# Altium footprint library allegro.PCBLIB: 16 footprints
Each footprint in its own frame and in the unit in brackets; x right, y up, seen from the top. Pads: shape width x height; smd on the part's side, far side on the other; paste and mask are expansions set on the pad; w line width, h text height; cw(c..) or ccw(c..) is an arc to the next point about the centre after c.
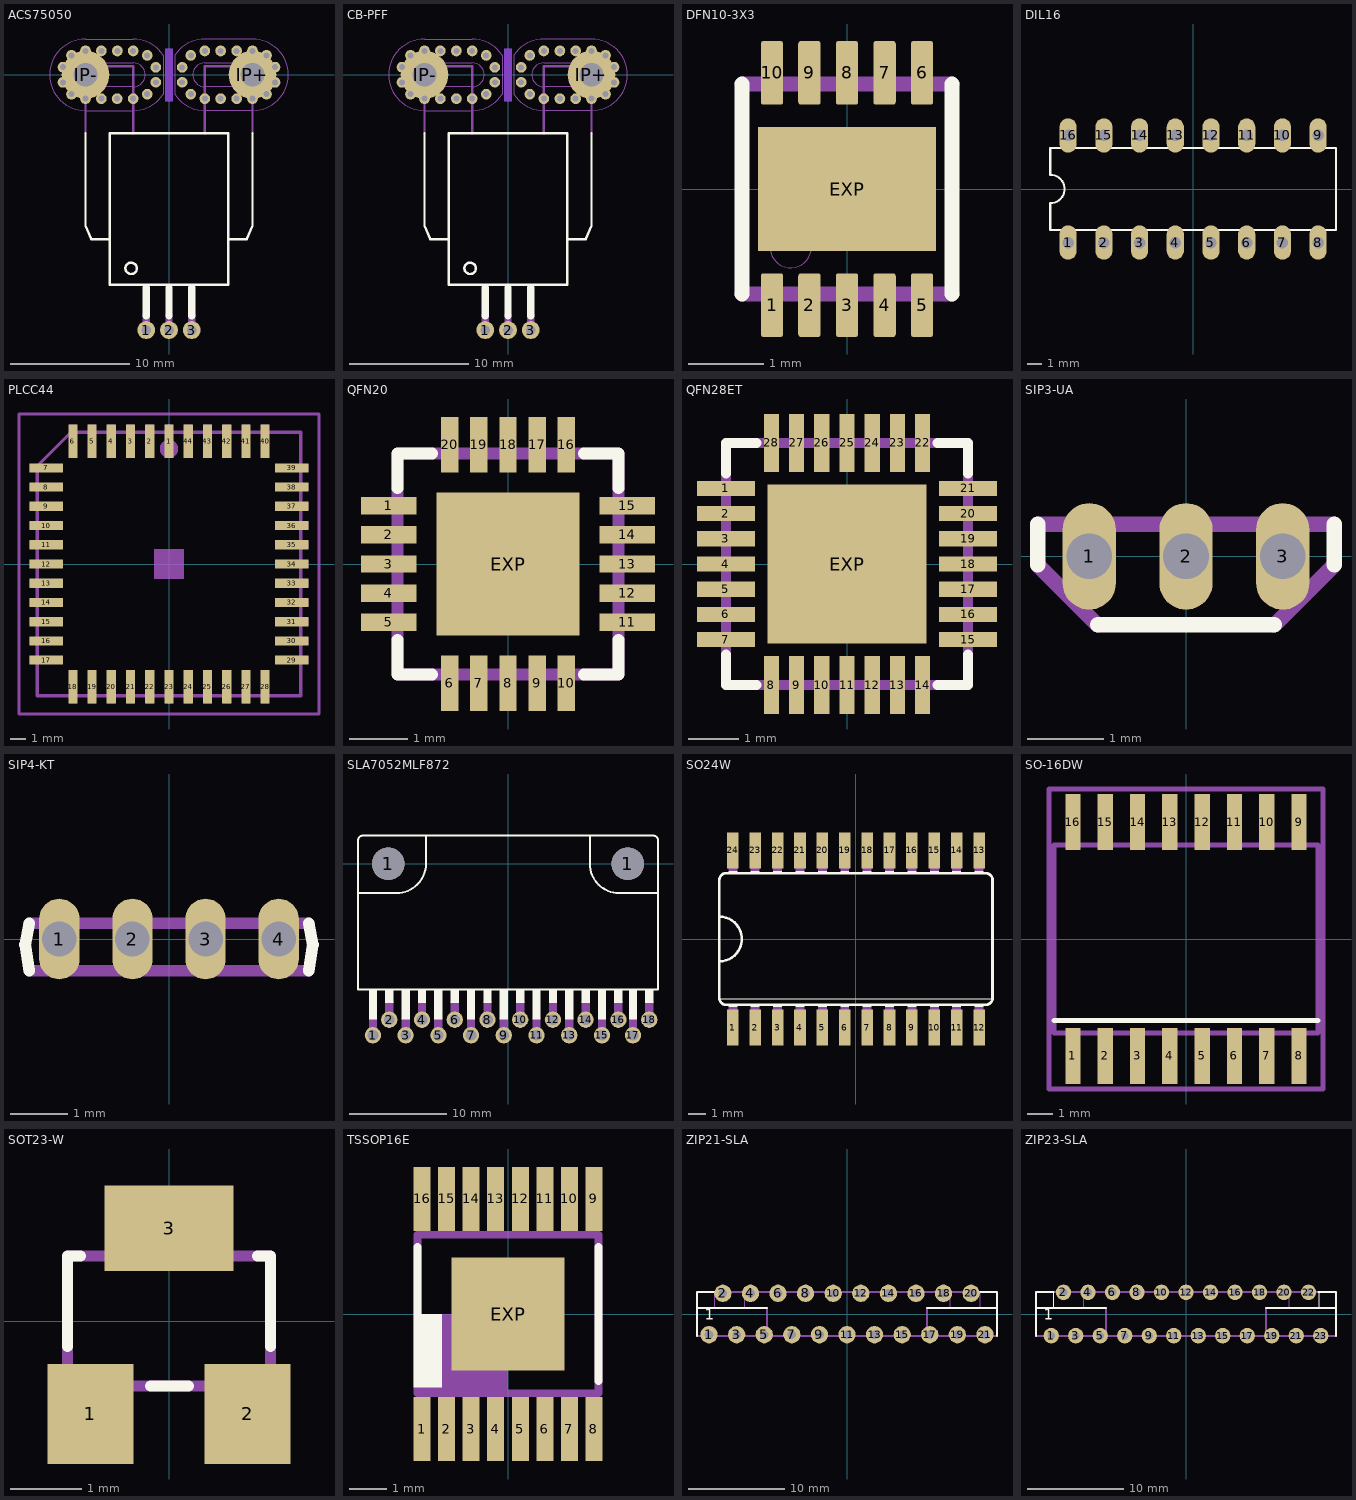
[diagram p0: the footprints below, top view; thin cyan lines are the x and y axes]

## ACS75050 [mm]
pads (37):
  round 1.5 hole 0.8: 1(-1.91,-21.4) 2(0,-21.4) 3(1.91,-21.4)
  round 4 hole 2: IP+(7,0) IP-(-7,0)
  round 0.9 hole 0.5: IP+@2(8.89,-0.635) IP+@3(8.89,0.635) IP+@4(8.175,1.625) IP+@5(7,2) IP+@6(5.675,2) IP+@7(4.325,2) IP+@8(3,2) IP+@9(1.825,1.625) IP+@10(1.1,0.625) IP+@11(1.1,-0.625) IP+@12(1.825,-1.625) IP+@13(3,-2) IP+@14(4.325,-2) IP+@15(5.675,-2) IP+@16(7,-2) IP+@17(8.175,-1.625) IP-@2(-8.89,-0.635) IP-@3(-8.89,0.635) IP-@4(-8.175,1.625) IP-@5(-7,2) IP-@6(-5.675,2) IP-@7(-4.325,2) IP-@8(-3,2) IP-@9(-1.825,1.625) IP-@10(-1.1,0.625) IP-@11(-1.1,-0.625) IP-@12(-1.825,-1.625) IP-@13(-3,-2) IP-@14(-4.35,-2) IP-@15(-5.675,-2) IP-@16(-7,-2) IP-@17(-8.175,-1.625)
Top Layer:
  region: 0,0 0.254,0 0.254,0.254 0,0.254
  region: 0,0 0.254,0 0.254,0.254 0,0.254
Top Layer keep-out:
  rectangle: -0.318,-2.222 0.318,2.222
Bottom Layer:
  region: 0,0 0.254,0 0.254,0.254 0,0.254
  region: 0,0 0.254,0 0.254,0.254 0,0.254
Bottom Layer keep-out:
  rectangle: -0.318,-2.222 0.318,2.222
Top Overlay:
  circle w0.203: c-3.175,-16.225 r0.478
  lines w0.203: -7,-4.9 -7,-12.65 -6.525,-13.775 -5.025,-13.775 ; 5,-13.775 6.525,-13.775 7,-12.65 7,-4.9 ; -4.95,-17.6 -4.95,-4.9 4.95,-4.9 4.95,-17.6 -4.95,-17.6
  lines w0.6: -1.91,-20.2 -1.91,-17.825 ; 0,-20.2 0,-17.825 ; 1.91,-20.2 1.91,-17.825
Mechanical 11:
  lines w0: -7,-1 -3,-1 ccw(c-3,0) -3,1 -7,1 ccw(c-7,0) -7,-1 ; 3,-1 7,-1 ccw(c7,0) 7,1 3,1 ccw(c3,0) 3,-1
Mechanical 14:
  circle w0.001: c1.824,-1.618 r0.25
  circle w0.001: c1.098,-0.618 r0.25
  circle w0.001: c1.098,0.618 r0.25
  circle w0.001: c1.824,1.618 r0.25
  circle w0.001: c3,2 r0.25
  circle w0.001: c3,-2 r0.25
  circle w0.001: c4.333,-2 r0.25
  circle w0.001: c5.666,-2 r0.25
  circle w0.001: c8.176,1.618 r0.25
  circle w0.001: c8.902,0.618 r0.25
  circle w0.001: c8.902,-0.618 r0.25
  circle w0.001: c8.175,-1.618 r0.25
  circle w0.001: c7,-2 r0.25
  circle w0.001: c7,2 r0.25
  circle w0.001: c5.667,2 r0.25
  circle w0.001: c4.333,2 r0.25
  circle w0.001: c-8.176,-1.618 r0.25
  circle w0.001: c-8.902,-0.618 r0.25
  circle w0.001: c-8.902,0.618 r0.25
  circle w0.001: c-8.175,1.618 r0.25
  circle w0.001: c-7,2 r0.25
  circle w0.001: c-7,-2 r0.25
  circle w0.001: c-5.667,-2 r0.25
  circle w0.001: c-4.333,-2 r0.25
  circle w0.001: c-1.824,1.618 r0.25
  circle w0.001: c-1.098,0.618 r0.25
  circle w0.001: c-1.098,-0.618 r0.25
  circle w0.001: c-1.824,-1.618 r0.25
  circle w0.001: c-3,-2 r0.25
  circle w0.001: c-3,2 r0.25
  circle w0.001: c-4.333,2 r0.25
  circle w0.001: c-5.666,2 r0.25
  lines w0.001: -7,-3 cw(c-7,0) -7,3 -3,3 cw(c-3,0.01) -0.5,1.65 -0.5,-1.65 cw(c-3,-0.01) -3,-3 -7,-3 ; 0.5,-1.65 ccw(c3,-0.01) 3,-3 7,-3 ccw(c7,0) 7,3 3,3 ccw(c3,0.01) 0.5,1.65 0.5,-1.65
Mechanical 16:
  lines w0.203: -7,-4.9 -7,0.7 -3,0.7 -3,-4.9 ; 3,-4.9 3,0.7 7,0.7 7,-4.9
  lines w0.6: -1.91,-21.4 -1.91,-20.2 ; 0,-21.4 0,-20.2 ; 1.91,-21.4 1.91,-20.2
Via Holes:
  rectangle: -0.318,-2.222 0.318,2.222

## CB-PFF [mm]
pads (37):
  round 1.5 hole 0.8: 1(-1.91,-21.4) 2(0,-21.4) 3(1.91,-21.4)
  round 4 hole 2: IP+(7,0) IP-(-7,0)
  round 0.9 hole 0.5: IP+@2(8.89,0.635) IP+@3(8.89,-0.635) IP+@4(8.175,-1.625) IP+@5(7,-2) IP+@6(5.675,-2) IP+@7(4.35,-2) IP+@8(3,-2) IP+@9(1.825,-1.625) IP+@10(1.1,-0.625) IP+@11(1.1,0.625) IP+@12(1.825,1.625) IP+@13(3,2) IP+@14(4.35,2) IP+@15(5.675,2) IP+@16(7,2) IP+@17(8.175,1.625) IP-@2(-8.89,0.635) IP-@3(-8.89,-0.635) IP-@4(-8.175,-1.625) IP-@5(-7,-2) IP-@6(-5.675,-2) IP-@7(-4.325,-2) IP-@8(-3,-2) IP-@9(-1.825,-1.625) IP-@10(-1.1,-0.625) IP-@11(-1.1,0.625) IP-@12(-1.825,1.625) IP-@13(-3,2) IP-@14(-4.325,2) IP-@15(-5.675,2) IP-@16(-7,2) IP-@17(-8.175,1.625)
Top Layer:
  region: 0,0 0.254,0 0.254,0.254 0,0.254
  region: 0,0 0.254,0 0.254,0.254 0,0.254
Top Layer keep-out:
  rectangle: -0.318,-2.222 0.318,2.222
Bottom Layer:
  region: 0,0 0.254,0 0.254,0.254 0,0.254
  region: 0,0 0.254,0 0.254,0.254 0,0.254
Bottom Layer keep-out:
  rectangle: -0.318,-2.222 0.318,2.222
Top Overlay:
  circle w0.203: c-3.175,-16.225 r0.478
  lines w0.203: -7,-4.9 -7,-12.65 -6.525,-13.775 -5.025,-13.775 ; 5,-13.775 6.525,-13.775 7,-12.65 7,-4.9 ; -4.95,-17.6 -4.95,-4.9 4.95,-4.9 4.95,-17.6 -4.95,-17.6
  lines w0.6: -1.91,-20.2 -1.91,-17.825 ; 0,-20.2 0,-17.825 ; 1.91,-20.2 1.91,-17.825
Mechanical 11:
  lines w0: -7,-1 -3,-1 ccw(c-3,0) -3,1 -7,1 ccw(c-7,0) -7,-1 ; 3,-1 7,-1 ccw(c7,0) 7,1 3,1 ccw(c3,0) 3,-1
Mechanical 14:
  circle w0.001: c-1.824,1.618 r0.25
  circle w0.001: c-1.098,0.618 r0.25
  circle w0.001: c-1.098,-0.618 r0.25
  circle w0.001: c-1.824,-1.618 r0.25
  circle w0.001: c-3,-2 r0.25
  circle w0.001: c-3,2 r0.25
  circle w0.001: c-4.333,2 r0.25
  circle w0.001: c-5.666,2 r0.25
  circle w0.001: c-8.176,-1.618 r0.25
  circle w0.001: c-8.902,-0.618 r0.25
  circle w0.001: c-8.902,0.618 r0.25
  circle w0.001: c-8.175,1.618 r0.25
  circle w0.001: c-7,2 r0.25
  circle w0.001: c-7,-2 r0.25
  circle w0.001: c-5.667,-2 r0.25
  circle w0.001: c-4.333,-2 r0.25
  circle w0.001: c8.176,1.618 r0.25
  circle w0.001: c8.902,0.618 r0.25
  circle w0.001: c8.902,-0.618 r0.25
  circle w0.001: c8.175,-1.618 r0.25
  circle w0.001: c7,-2 r0.25
  circle w0.001: c7,2 r0.25
  circle w0.001: c5.667,2 r0.25
  circle w0.001: c4.333,2 r0.25
  circle w0.001: c1.824,-1.618 r0.25
  circle w0.001: c1.098,-0.618 r0.25
  circle w0.001: c1.098,0.618 r0.25
  circle w0.001: c1.824,1.618 r0.25
  circle w0.001: c3,2 r0.25
  circle w0.001: c3,-2 r0.25
  circle w0.001: c4.333,-2 r0.25
  circle w0.001: c5.666,-2 r0.25
  lines w0.001: -7,-3 cw(c-7,0) -7,3 -3,3 cw(c-3,0.01) -0.5,1.65 -0.5,-1.65 cw(c-3,-0.01) -3,-3 -7,-3 ; 0.5,-1.65 ccw(c3,-0.01) 3,-3 7,-3 ccw(c7,0) 7,3 3,3 ccw(c3,0.01) 0.5,1.65 0.5,-1.65
Mechanical 16:
  lines w0.203: -7,-4.9 -7,0.7 -3,0.7 -3,-4.9 ; 3,-4.9 3,0.7 7,0.7 7,-4.9
  lines w0.6: -1.91,-21.4 -1.91,-20.2 ; 0,-21.4 0,-20.2 ; 1.91,-21.4 1.91,-20.2
Via Holes:
  rectangle: -0.318,-2.222 0.318,2.222

## DFN10-3X3 [mm]
pads (11):
  rrect25% 0.3x0.85 smd: 1(-1,-1.55) 2(-0.5,-1.55) 3(0,-1.55) 4(0.5,-1.55) 5(1,-1.55) 6(1,1.55) 7(0.5,1.55) 8(0,1.55) 9(-0.5,1.55) 10(-1,1.55)
  rect 2.38x1.65 smd: EXP(0,0)
Top Overlay:
  lines w0.203: -1.4,-1.4 -1.4,1.4 ; 1.4,-1.4 1.4,1.4
Top Solder:
  rectangle: -1.175,-2 -0.825,-1.1
  rectangle: -0.675,-2 -0.325,-1.1
  rectangle: -0.175,-2 0.175,-1.1
  rectangle: 0.325,-2 0.675,-1.1
  rectangle: 0.825,-2 1.175,-1.1
  region: 1.175,2 0.825,2 0.825,1.1 1.175,1.1
  region: 0.675,2 0.325,2 0.325,1.1 0.675,1.1
  region: 0.175,2 -0.175,2 -0.175,1.1 0.175,1.1
  region: -0.325,2 -0.675,2 -0.675,1.1 -0.325,1.1
  region: -0.825,2 -1.175,2 -1.175,1.1 -0.825,1.1
  rectangle: -1.25,-0.9 1.25,0.9
Mechanical 16:
  circle w0: c-0.75,-0.775 r0.275
  lines w0.203: -1.4,-1.4 1.4,-1.4 ; -1.4,1.4 1.4,1.4

## DIL16 [mil]
pads (16):
  oval 48x96 hole 32: 1(-350,-150) 2(-250,-150) 3(-150,-150) 4(-50,-150) 5(50,-150) 6(150,-150) 7(250,-150) 8(350,-150) 9(350,150) 10(250,150) 11(150,150) 12(50,150) 13(-50,150) 14(-150,150) 15(-250,150) 16(-350,150)
Top Overlay:
  lines w6: -400,-115 400,-115 400,115 -400,115 -400,40 cw(c-400,0) -400,-40 -400,-115

## PLCC44 [mm]
pads (44):
  rect 0.6x2.2 smd: 1(0,8.1) 2(-1.27,8.1) 3(-2.54,8.1) 4(-3.81,8.1) 5(-5.08,8.1) 6(-6.35,8.1) 18(-6.35,-8.1) 19(-5.08,-8.1) 20(-3.81,-8.1) 21(-2.54,-8.1) 22(-1.27,-8.1) 23(0,-8.1) 24(1.27,-8.1) 25(2.54,-8.1) 26(3.81,-8.1) 27(5.08,-8.1) 28(6.35,-8.1) 40(6.35,8.1) 41(5.08,8.1) 42(3.81,8.1) 43(2.54,8.1) 44(1.27,8.1)
  rect 2.2x0.6 smd: 7(-8.1,6.35) 8(-8.1,5.08) 9(-8.1,3.81) 10(-8.1,2.54) 11(-8.1,1.27) 12(-8.1,0) 13(-8.1,-1.27) 14(-8.1,-2.54) 15(-8.1,-3.81) 16(-8.1,-5.08) 17(-8.1,-6.35) 29(8.1,-6.35) 30(8.1,-5.08) 31(8.1,-3.81) 32(8.1,-2.54) 33(8.1,-1.27) 34(8.1,0) 35(8.1,1.27) 36(8.1,2.54) 37(8.1,3.81) 38(8.1,5.08) 39(8.1,6.35)
Mechanical 6:
  rectangle: -1,-1 1,1
Mechanical 16:
  circle w0.61: c0,7.6 r0.3
  rectangle: -0.26,8.75 0.26,9.2
  rectangle: -1.53,8.75 -1.01,9.2
  rectangle: -2.8,8.75 -2.28,9.2
  rectangle: -4.07,8.75 -3.55,9.2
  rectangle: -5.34,8.75 -4.82,9.2
  rectangle: -6.61,8.75 -6.09,9.2
  rectangle: -9.2,6.09 -8.75,6.61
  rectangle: -9.2,4.82 -8.75,5.34
  rectangle: -9.2,3.55 -8.75,4.07
  rectangle: -9.2,2.28 -8.75,2.8
  rectangle: -9.2,1.01 -8.75,1.53
  rectangle: -9.2,-0.26 -8.75,0.26
  rectangle: -9.2,-1.53 -8.75,-1.01
  rectangle: -9.2,-2.8 -8.75,-2.28
  rectangle: -9.2,-4.07 -8.75,-3.55
  rectangle: -9.2,-5.34 -8.75,-4.82
  rectangle: -9.2,-6.61 -8.75,-6.09
  rectangle: -6.61,-9.2 -6.09,-8.75
  rectangle: -5.34,-9.2 -4.82,-8.75
  rectangle: -4.07,-9.2 -3.55,-8.75
  rectangle: -2.8,-9.2 -2.28,-8.75
  rectangle: -1.53,-9.2 -1.01,-8.75
  rectangle: -0.26,-9.2 0.26,-8.75
  rectangle: 1.01,-9.2 1.53,-8.75
  rectangle: 2.28,-9.2 2.8,-8.75
  rectangle: 3.55,-9.2 4.07,-8.75
  rectangle: 4.82,-9.2 5.34,-8.75
  rectangle: 6.09,-9.2 6.61,-8.75
  rectangle: 8.75,-6.61 9.2,-6.09
  rectangle: 8.75,-5.34 9.2,-4.82
  rectangle: 8.75,-4.07 9.2,-3.55
  rectangle: 8.75,-2.8 9.2,-2.28
  rectangle: 8.75,-1.53 9.2,-1.01
  rectangle: 8.75,-0.26 9.2,0.26
  rectangle: 8.75,1.01 9.2,1.53
  rectangle: 8.75,2.28 9.2,2.8
  rectangle: 8.75,3.55 9.2,4.07
  rectangle: 8.75,4.82 9.2,5.34
  rectangle: 8.75,6.09 9.2,6.61
  rectangle: 6.09,8.75 6.61,9.2
  rectangle: 4.82,8.75 5.34,9.2
  rectangle: 3.55,8.75 4.07,9.2
  rectangle: 2.28,8.75 2.8,9.2
  rectangle: 1.01,8.75 1.53,9.2
  lines w0.203: -8.7,-8.7 -8.7,6.465 -6.465,8.7 8.7,8.7 8.7,-8.7 -8.7,-8.7
  text "IPC PLCC-44 Suare" at -5.96,4.27 h0.94
Mechanical 27:
  lines w0.2: -9.903,-9.903 9.903,-9.903 9.903,9.903 -9.903,9.903 -9.903,-9.903

## QFN20 [mm]
pads (21):
  rect 0.95x0.3 smd: 1(-2.05,1) 2(-2.05,0.5) 3(-2.05,0) 4(-2.05,-0.5) 5(-2.05,-1) 11(2.05,-1) 12(2.05,-0.5) 13(2.05,0) 14(2.05,0.5) 15(2.05,1)
  rect 0.3x0.95 smd: 6(-1,-2.05) 7(-0.5,-2.05) 8(0,-2.05) 9(0.5,-2.05) 10(1,-2.05) 16(1,2.05) 17(0.5,2.05) 18(0,2.05) 19(-0.5,2.05) 20(-1,2.05)
  rect 2.45x2.45 smd: EXP(0,0)
Top Overlay:
  lines w0.203: -1.898,-1.301 -1.898,-1.898 -1.301,-1.898 ; -1.898,1.301 -1.898,1.898 -1.301,1.898 ; 1.301,-1.898 1.898,-1.898 1.898,-1.301 ; 1.301,1.898 1.898,1.898 1.898,1.301
Top Paste:
  rectangle: -2.5,0.875 -1.6,1.125
  rectangle: -2.5,0.375 -1.6,0.625
  rectangle: -2.5,-0.125 -1.6,0.125
  rectangle: -2.5,-0.625 -1.6,-0.375
  rectangle: -2.5,-1.125 -1.6,-0.875
  region: -0.875,-2.5 -0.875,-1.6 -1.125,-1.6 -1.125,-2.5
  region: -0.375,-2.5 -0.375,-1.6 -0.625,-1.6 -0.625,-2.5
  region: 0.125,-2.5 0.125,-1.6 -0.125,-1.6 -0.125,-2.5
  region: 0.625,-2.5 0.625,-1.6 0.375,-1.6 0.375,-2.5
  region: 1.125,-2.5 1.125,-1.6 0.875,-1.6 0.875,-2.5
  region: 2.5,-0.875 1.6,-0.875 1.6,-1.125 2.5,-1.125
  region: 2.5,-0.375 1.6,-0.375 1.6,-0.625 2.5,-0.625
  region: 2.5,0.125 1.6,0.125 1.6,-0.125 2.5,-0.125
  region: 2.5,0.625 1.6,0.625 1.6,0.375 2.5,0.375
  region: 2.5,1.125 1.6,1.125 1.6,0.875 2.5,0.875
  region: 0.875,2.5 0.875,1.6 1.125,1.6 1.125,2.5
  region: 0.375,2.5 0.375,1.6 0.625,1.6 0.625,2.5
  region: -0.125,2.5 -0.125,1.6 0.125,1.6 0.125,2.5
  region: -0.625,2.5 -0.625,1.6 -0.375,1.6 -0.375,2.5
  region: -1.125,2.5 -1.125,1.6 -0.875,1.6 -0.875,2.5
  region: 0,0 0.254,0 0.254,0.254 0,0.254
Top Solder:
  rectangle: -2.575,0.825 -1.525,1.175
  rectangle: -2.575,0.325 -1.525,0.675
  rectangle: -2.575,-0.175 -1.525,0.175
  rectangle: -2.575,-0.675 -1.525,-0.325
  rectangle: -2.575,-1.175 -1.525,-0.825
  region: -0.825,-2.575 -0.825,-1.525 -1.175,-1.525 -1.175,-2.575
  region: -0.325,-2.575 -0.325,-1.525 -0.675,-1.525 -0.675,-2.575
  region: 0.175,-2.575 0.175,-1.525 -0.175,-1.525 -0.175,-2.575
  region: 0.675,-2.575 0.675,-1.525 0.325,-1.525 0.325,-2.575
  region: 1.175,-2.575 1.175,-1.525 0.825,-1.525 0.825,-2.575
  region: 2.575,-0.825 1.525,-0.825 1.525,-1.175 2.575,-1.175
  region: 2.575,-0.325 1.525,-0.325 1.525,-0.675 2.575,-0.675
  region: 2.575,0.175 1.525,0.175 1.525,-0.175 2.575,-0.175
  region: 2.575,0.675 1.525,0.675 1.525,0.325 2.575,0.325
  region: 2.575,1.175 1.525,1.175 1.525,0.825 2.575,0.825
  region: 0.825,2.575 0.825,1.525 1.175,1.525 1.175,2.575
  region: 0.325,2.575 0.325,1.525 0.675,1.525 0.675,2.575
  region: -0.175,2.575 -0.175,1.525 0.175,1.525 0.175,2.575
  region: -0.675,2.575 -0.675,1.525 -0.325,1.525 -0.325,2.575
  region: -1.175,2.575 -1.175,1.525 -0.825,1.525 -0.825,2.575
  region: 0,0 0.254,0 0.254,0.254 0,0.254
Mechanical 16:
  lines w0.203: -1.898,-1.898 1.898,-1.898 1.898,1.898 -1.898,1.898 -1.898,-1.898

## QFN28ET [mm]
pads (29):
  rect 1.15x0.3 smd: 1(-2.4,1.5) 2(-2.4,1) 3(-2.4,0.5) 4(-2.4,0) 5(-2.4,-0.5) 6(-2.4,-1) 7(-2.4,-1.5) 15(2.4,-1.5) 16(2.4,-1) 17(2.4,-0.5) 18(2.4,0) 19(2.4,0.5) 20(2.4,1) 21(2.4,1.5)
  rect 0.3x1.15 smd: 8(-1.5,-2.4) 9(-1,-2.4) 10(-0.5,-2.4) 11(0,-2.4) 12(0.5,-2.4) 13(1,-2.4) 14(1.5,-2.4) 22(1.5,2.4) 23(1,2.4) 24(0.5,2.4) 25(0,2.4) 26(-0.5,2.4) 27(-1,2.4) 28(-1.5,2.4)
  rect 3.15x3.15 smd: EXP(0,0)
Top Overlay:
  lines w0.203: -2.399,-1.802 -2.399,-2.399 -1.802,-2.399 ; -2.399,1.802 -2.399,2.399 -1.802,2.399 ; 1.802,-2.399 2.399,-2.399 2.399,-1.802 ; 1.802,2.399 2.399,2.399 2.399,1.802
Top Paste:
  region: 0,0 0.254,0 0.254,0.254 0,0.254
Top Solder:
  region: 0,0 0.254,0 0.254,0.254 0,0.254
Mechanical 16:
  lines w0.203: -2.399,-2.399 2.399,-2.399 2.399,2.399 -2.399,2.399 -2.399,-2.399

## SIP3-UA [mm]
pads (3):
  oval 0.7x1.4 hole 0.6: 1(-1.27,0) 2(0,0) 3(1.27,0)
Top Overlay:
  lines w0.203: -1.95,-0.11 -1.95,0.425 ; -1.16,-0.9 1.16,-0.9 ; 1.95,-0.11 1.95,0.425
Mechanical 16:
  lines w0.203: -1.95,-0.11 -1.16,-0.9 ; -1.95,0.425 1.95,0.425 ; 1.16,-0.9 1.95,-0.11

## SIP4-KT [mm]
pads (4):
  oval 0.7x1.4 hole 0.6: 1(-1.905,0) 2(-0.635,0) 3(0.635,0) 4(1.905,0)
Top Overlay:
  lines w0.203: -2.425,-0.55 -2.5,-0.1 -2.425,0.275 ; 2.425,-0.55 2.5,-0.1 2.425,0.275
Top Solder:
  lines w0.7: -1.9,-0.35 -1.9,0.35 ; -0.63,-0.35 -0.63,0.35 ; 0.64,-0.35 0.64,0.35 ; 1.91,-0.35 1.91,0.35
Mechanical 16:
  lines w0.2: -2.425,0.275 2.425,0.275
  lines w0.203: -2.425,-0.55 2.425,-0.55
Mechanical 19:
  lines w0: -2.6,0 -2.426,0

## SLA7052MLF872 [mil]
pads (20):
  round 66 hole 43.31: 1(-546.06,-692.91) 2(-479.92,-629.92) 3(-413.78,-692.91) 4(-347.64,-629.92) 5(-281.5,-692.91) 6(-215.35,-629.92) 7(-149.21,-692.91) 8(-83.07,-629.92) 9(-16.93,-692.91) 10(49.21,-629.92) 11(115.35,-692.91) 12(181.5,-629.92) 13(247.64,-692.91) 14(313.78,-629.92) 15(379.92,-692.91) 16(446.06,-629.92) 17(504.92,-692.91) 18(571.06,-629.92)
  round 131.89 hole 131.89: 1(-484.25,0) 1(484.25,0)
Top Overlay:
  rectangle: -562.8,-629.92 -529.33,-509.84
  rectangle: -496.65,-562.01 -463.19,-509.84
  rectangle: -430.51,-629.92 -397.05,-509.84
  rectangle: -364.37,-562.01 -330.91,-509.84
  rectangle: -298.23,-629.92 -264.76,-509.84
  rectangle: -232.09,-562.01 -198.62,-509.84
  rectangle: -165.94,-629.92 -132.48,-509.84
  rectangle: -99.8,-562.01 -66.34,-509.84
  rectangle: -33.66,-629.92 -0.2,-509.84
  rectangle: 32.48,-562.01 65.94,-509.84
  rectangle: 98.62,-629.92 132.09,-509.84
  rectangle: 164.76,-562.01 198.23,-509.84
  rectangle: 230.91,-629.92 264.37,-509.84
  rectangle: 297.05,-562.01 330.51,-509.84
  rectangle: 363.19,-629.92 396.65,-509.84
  rectangle: 429.33,-562.01 462.8,-509.84
  rectangle: 488.19,-629.92 521.65,-509.84
  rectangle: 554.33,-562.01 587.8,-509.84
  lines w8: -601.38,-118.11 -449.8,-118.11 ccw(c-449.8,0) -331.69,0 -331.69,110.24 ; 330.71,109.25 330.71,0 ccw(c448.82,0) 448.82,-118.11 601.38,-118.11 ; -606.3,-507.87 606.3,-507.87 606.3,94.49 ccw(c586.62,94.48) 586.61,114.17 -586.61,114.17 ccw(c-586.62,94.48) -606.3,94.49 -606.3,-507.87
Mechanical 16:
  lines w33.46: -546.06,-694.49 -546.06,-628.35 ; -479.92,-628.35 -479.92,-562.2 ; -413.78,-694.49 -413.78,-628.35 ; -347.64,-628.35 -347.64,-562.2 ; -281.5,-694.49 -281.5,-628.35 ; -215.35,-628.35 -215.35,-562.2 ; -149.21,-694.49 -149.21,-628.35 ; -83.07,-628.35 -83.07,-562.2 ; -16.93,-694.49 -16.93,-628.35 ; 49.21,-628.35 49.21,-562.2 ; 115.35,-694.49 115.35,-628.35 ; 181.5,-628.35 181.5,-562.2 ; 247.64,-694.49 247.64,-628.35 ; 313.78,-628.35 313.78,-562.2 ; 379.92,-694.49 379.92,-628.35 ; 446.06,-628.35 446.06,-562.2 ; 504.92,-694.49 504.92,-628.35 ; 571.06,-628.35 571.06,-562.2

## SO24W [mil]
pads (24):
  rect 26x80 smd: 1(-275,-198) 2(-225,-198) 3(-175,-198) 4(-125,-198) 5(-75,-198) 6(-25,-198) 7(25,-198) 8(75,-198) 9(125,-198) 10(175,-198) 11(225,-198) 12(275,-198) 13(275,198) 14(225,198) 15(175,198) 16(125,198) 17(75,198) 18(25,198) 19(-25,198) 20(-75,198) 21(-125,198) 22(-175,198) 23(-225,198) 24(-275,198)
Top Overlay:
  rectangle: -285,-152 -265,-147
  rectangle: -235,-152 -215,-147
  rectangle: -185,-152 -165,-147
  rectangle: -135,-152 -115,-147
  rectangle: -85,-152 -65,-147
  rectangle: -35,-152 -15,-147
  rectangle: 15,-152 35,-147
  rectangle: 65,-152 85,-147
  rectangle: -285,147 -265,152
  rectangle: -235,147 -215,152
  rectangle: -185,147 -165,152
  rectangle: -135,147 -115,152
  rectangle: -85,147 -65,152
  rectangle: -35,147 -15,152
  rectangle: 15,147 35,152
  rectangle: 65,147 85,152
  rectangle: 115,147 135,152
  rectangle: 165,147 185,152
  rectangle: 215,147 235,152
  rectangle: 265,147 285,152
  rectangle: 115,-152 135,-147
  rectangle: 165,-152 185,-147
  rectangle: 215,-152 235,-147
  rectangle: 265,-152 285,-147
  lines w2: -305,-133 305,-133
  lines w6: -305,-50 -305,50 ; -305,-50 -305,-132 ccw(c-290,-132) -290,-147 290,-147 ccw(c290,-132) 305,-132 305,132 ccw(c290,132) 290,147 -290,147 ccw(c-290,132) -305,132 -305,50 ; -305,-50 ccw(c-305,0) -305,50
Mechanical 16:
  rectangle: -285,-210 -265,-152
  rectangle: -235,-210 -215,-152
  rectangle: -185,-210 -165,-152
  rectangle: -135,-210 -115,-152
  rectangle: -85,-210 -65,-152
  rectangle: -35,-210 -15,-152
  rectangle: 15,-210 35,-152
  rectangle: 65,-210 85,-152
  rectangle: -285,152 -265,210
  rectangle: -235,152 -215,210
  rectangle: -185,152 -165,210
  rectangle: -135,152 -115,210
  rectangle: -85,152 -65,210
  rectangle: -35,152 -15,210
  rectangle: 15,152 35,210
  rectangle: 65,152 85,210
  rectangle: 115,152 135,210
  rectangle: 165,152 185,210
  rectangle: 215,152 235,210
  rectangle: 265,152 285,210
  rectangle: 115,-210 135,-152
  rectangle: 165,-210 185,-152
  rectangle: 215,-210 235,-152
  rectangle: 265,-210 285,-152

## SO-16DW [mm]
pads (16):
  rect 0.6x2.2 smd: 1(-4.445,-4.6) 2(-3.175,-4.6) 3(-1.905,-4.6) 4(-0.635,-4.6) 5(0.635,-4.6) 6(1.905,-4.6) 7(3.175,-4.6) 8(4.445,-4.6) 9(4.445,4.6) 10(3.175,4.6) 11(1.905,4.6) 12(0.635,4.6) 13(-0.635,4.6) 14(-1.905,4.6) 15(-3.175,4.6) 16(-4.445,4.6)
Top Overlay:
  lines w0.203: -5.19,-3.2 5.19,-3.2
Mechanical 16:
  rectangle: -4.69,-5.32 -4.2,-3.8
  rectangle: -3.42,-5.32 -2.93,-3.8
  rectangle: -2.15,-5.32 -1.66,-3.8
  rectangle: -0.88,-5.32 -0.39,-3.8
  rectangle: 0.39,-5.32 0.88,-3.8
  rectangle: 1.66,-5.32 2.15,-3.8
  rectangle: 2.93,-5.32 3.42,-3.8
  rectangle: 4.2,-5.32 4.69,-3.8
  rectangle: 4.2,3.8 4.69,5.32
  rectangle: 2.93,3.8 3.42,5.32
  rectangle: 1.66,3.8 2.15,5.32
  rectangle: 0.39,3.8 0.88,5.32
  rectangle: -0.88,3.8 -0.39,5.32
  rectangle: -2.15,3.8 -1.66,5.32
  rectangle: -3.42,3.8 -2.93,5.32
  rectangle: -4.69,3.8 -4.2,5.32
  lines w0.203: -5.19,-3.7 5.19,-3.7 5.19,3.7 -5.19,3.7 -5.19,-3.7
Mechanical 27:
  lines w0.2: -5.395,-5.9 5.395,-5.9 5.395,5.9 -5.395,5.9 -5.395,-5.9

## SOT23-W [mm]
pads (3):
  rect 1.2x1.4 smd: 1(-1.1,-1.3) 2(1.1,-1.3)
  rect 1.8x1.2 smd: 3(0,1.3)
Top Overlay:
  lines w0.152: -1.422,-0.352 -1.422,0.91 -1.239,0.91 ; -0.261,-0.91 0.272,-0.91 ; 1.239,0.91 1.422,0.91 1.422,-0.352
Mechanical 16:
  rectangle: -0.229,0.961 0.229,1.45
  rectangle: 0.711,-1.45 1.168,-0.961
  rectangle: -1.168,-1.45 -0.711,-0.961
  lines w0.152: -1.422,-0.91 1.422,-0.91 1.422,0.91 -1.422,0.91 -1.422,-0.91

## TSSOP16E [mm]
pads (17):
  rect 0.45x1.7 smd: 1(-2.275,-3.05) 2(-1.625,-3.05) 3(-0.975,-3.05) 4(-0.325,-3.05) 5(0.325,-3.05) 6(0.975,-3.05) 7(1.625,-3.05) 8(2.275,-3.05) 9(2.275,3.05) 10(1.625,3.05) 11(0.975,3.05) 12(0.325,3.05) 13(-0.325,3.05) 14(-0.975,3.05) 15(-1.625,3.05) 16(-2.275,3.05)
  rect 3x3 smd: EXP(0,0)
Top Overlay:
  rectangle: -2.5,-1.95 -1.75,0
  lines w0.203: -2.4,-1.775 -2.4,1.775 ; 2.4,-1.775 2.4,1.775
Top Paste:
  rectangle: -2.45,-3.85 -2.1,-2.25
  rectangle: -1.8,-3.85 -1.45,-2.25
  rectangle: -1.15,-3.85 -0.8,-2.25
  rectangle: -0.5,-3.85 -0.15,-2.25
  rectangle: 0.15,-3.85 0.5,-2.25
  rectangle: 0.8,-3.85 1.15,-2.25
  rectangle: 1.45,-3.85 1.8,-2.25
  rectangle: 2.1,-3.85 2.45,-2.25
  region: 2.45,3.85 2.1,3.85 2.1,2.25 2.45,2.25
  region: 1.8,3.85 1.45,3.85 1.45,2.25 1.8,2.25
  region: 1.15,3.85 0.8,3.85 0.8,2.25 1.15,2.25
  region: 0.5,3.85 0.15,3.85 0.15,2.25 0.5,2.25
  region: -0.15,3.85 -0.5,3.85 -0.5,2.25 -0.15,2.25
  region: -0.8,3.85 -1.15,3.85 -1.15,2.25 -0.8,2.25
  region: -1.45,3.85 -1.8,3.85 -1.8,2.25 -1.45,2.25
  region: -2.1,3.85 -2.45,3.85 -2.45,2.25 -2.1,2.25
  rectangle: -1.3,-1.3 1.3,1.3
Top Solder:
  rectangle: -2.525,-3.975 -2.025,-2.125
  rectangle: -1.875,-3.975 -1.375,-2.125
  rectangle: -1.225,-3.975 -0.725,-2.125
  rectangle: -0.575,-3.975 -0.075,-2.125
  rectangle: 0.075,-3.975 0.575,-2.125
  rectangle: 0.725,-3.975 1.225,-2.125
  rectangle: 1.375,-3.975 1.875,-2.125
  rectangle: 2.025,-3.975 2.525,-2.125
  region: 2.525,3.975 2.025,3.975 2.025,2.125 2.525,2.125
  region: 1.875,3.975 1.375,3.975 1.375,2.125 1.875,2.125
  region: 1.225,3.975 0.725,3.975 0.725,2.125 1.225,2.125
  region: 0.575,3.975 0.075,3.975 0.075,2.125 0.575,2.125
  region: -0.075,3.975 -0.575,3.975 -0.575,2.125 -0.075,2.125
  region: -0.725,3.975 -1.225,3.975 -1.225,2.125 -0.725,2.125
  region: -1.375,3.975 -1.875,3.975 -1.875,2.125 -1.375,2.125
  region: -2.025,3.975 -2.525,3.975 -2.525,2.125 -2.025,2.125
  rectangle: -1.625,-1.625 1.625,1.625
Mechanical 16:
  rectangle: -2.35,-2.05 0,0
  lines w0.203: -2.4,-2.1 2.4,-2.1 2.4,2.1 -2.4,2.1 -2.4,-2.1

## ZIP21-SLA [mm]
pads (21):
  round 1.8 hole 0.9: 1(-14.3,-2.145) 2(-12.87,2.145) 3(-11.44,-2.145) 4(-10.01,2.145) 5(-8.58,-2.145) 6(-7.15,2.145) 7(-5.72,-2.145) 8(-4.29,2.145) 9(-2.86,-2.145) 10(-1.43,2.145) 11(0,-2.145) 12(1.43,2.145) 13(2.86,-2.145) 14(4.29,2.145) 15(5.72,-2.145) 16(7.15,2.145) 17(8.58,-2.145) 18(10.01,2.145) 19(11.44,-2.145) 20(12.87,2.145) 21(14.3,-2.145)
Top Overlay:
  lines w0.203: -15.55,-2.3 -15.55,2.3 -13.75,2.3 ; -15.5,0.6 -8.3,0.6 ; 8.3,0.6 15.45,0.6 ; 13.75,2.3 15.55,2.3 15.55,-2.3
  text "1" at -14.732,-1.016 h1.97
Mechanical 16:
  lines w0.102: -13.75,0.65 -13.75,2.3 ; -10.65,0.65 -10.65,2.25 ; 10.65,0.65 10.65,2.25 ; 13.75,0.65 13.75,2.3
  lines w0.203: -15.55,-2.3 15.55,-2.3 ; -13.75,2.3 13.75,2.3 ; -8.3,-2.2 -8.3,0.6 ; 8.3,-2.2 8.3,0.6

## ZIP23-SLA [mil]
pads (23):
  round 62.99 hole 31.5: 1(-550,-88.58) 2(-500,88.58) 3(-450,-88.58) 4(-400,88.58) 5(-350,-88.58) 6(-300,88.58) 7(-250,-88.58) 8(-200,88.58) 9(-150,-88.58) 10(-100,88.58) 11(-50,-88.58) 12(0,88.58) 13(50,-88.58) 14(100,88.58) 15(150,-88.58) 16(200,88.58) 17(250,-88.58) 18(300,88.58) 19(350,-88.58) 20(400,88.58) 21(450,-88.58) 22(500,88.58) 23(550,-88.58)
Top Overlay:
  lines w4: -541.34,25.59 -541.34,90.55 ; 541.34,25.59 541.34,90.55
  lines w8: -612.2,-90.55 -612.2,90.55 -541.34,90.55 ; -610.24,23.62 -326.77,23.62 ; 326.77,23.62 608.27,23.62 ; 541.34,90.55 612.2,90.55 612.2,-90.55
  text "1" at -580,-40 h77.5
Mechanical 16:
  lines w4: -419.29,25.59 -419.29,88.58 ; 419.29,25.59 419.29,88.58
  lines w8: -612.2,-90.55 612.2,-90.55 ; -541.34,90.55 541.34,90.55 ; -326.77,-86.61 -326.77,23.62 ; 326.77,-86.61 326.77,23.62